# Altium footprint library PcbLib1.PcbLib: 1 footprints
Each footprint in its own frame and in the unit in brackets; x right, y up, seen from the top. Pads: shape width x height; smd on the part's side, far side on the other; paste and mask are expansions set on the pad; w line width, h text height; cw(c..) or ccw(c..) is an arc to the next point about the centre after c.
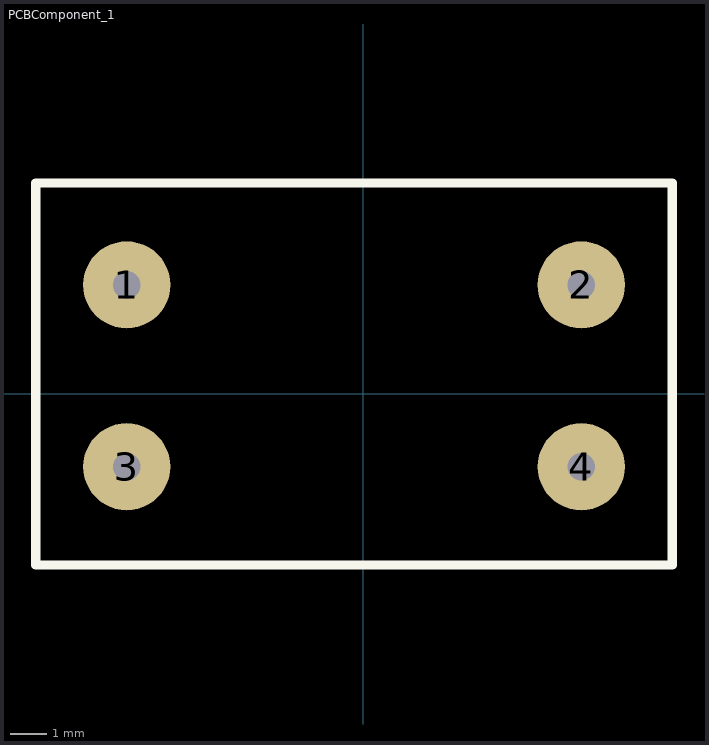
[diagram p0: the footprint, top view; thin cyan lines are the x and y axes]

## PCBComponent_1 [mm]
pads (4):
  round 2.4 hole 0.762: 1(-6.5,3) 2(6,3) 3(-6.5,-2) 4(6,-2)
Top Overlay:
  lines w0.254: -9,-4.7 8.5,-4.7 8.5,5.8 -9,5.8 -9,-4.7